# EAGLE library part MAX6301ESA+ (library MAX6301)
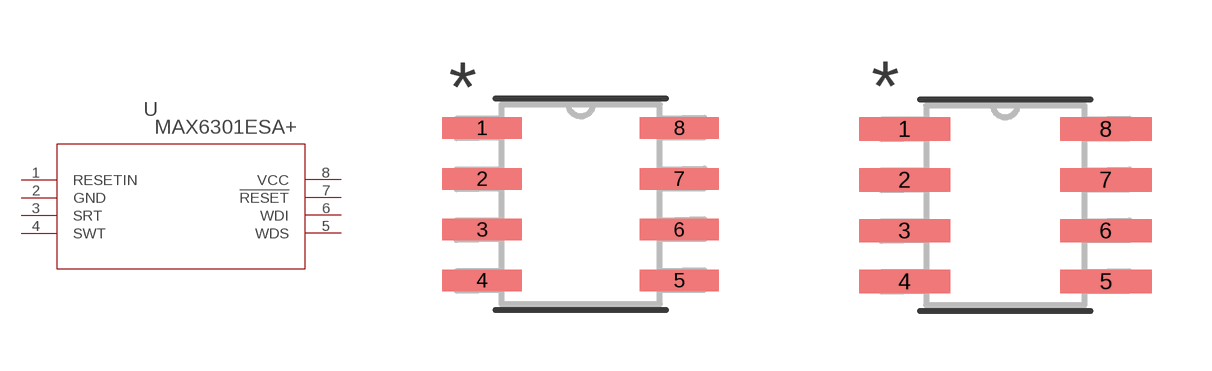
[diagram p0: symbol with the pads of 21-0041B_8; footprints 21-0041B_8, 21-0041B_8-M]

Designator prefix U

## MAX6301ESA+ (MANUFACTURER_PART_NUMBER: MAX6301ESA+; VENDOR: Maxim Integrated Products)  [21-0041B_8]
1  RESETIN  in
2  GND  pwr
3  SRT  in
4  SWT  in
5  WDS  in
6  WDI  in
7  !RESET  out
8  VCC  pwr

## MAX6301ESA+21-0041B_8-M (MANUFACTURER_PART_NUMBER: MAX6301ESA+; VENDOR: Maxim Integrated Products)  [21-0041B_8-M]
Pads as for 21-0041B_8

## MAX6301ESA+21-0041B_8-L (MANUFACTURER_PART_NUMBER: MAX6301ESA+; VENDOR: Maxim Integrated Products)  [21-0041B_8-L]
Pads as for 21-0041B_8

## Footprint 21-0041B_8 (pad centres in mm)
smd 1.981 x 0.533: 1 -2.464,1.905; 2 -2.464,0.635; 3 -2.464,-0.635; 4 -2.464,-1.905; 5 2.464,-1.905; 6 2.464,-0.635; 7 2.464,0.635; 8 2.464,1.905

## Footprint 21-0041B_8-M (pad centres in mm)
smd 2.286 x 0.584: 1 -2.515,1.905; 2 -2.515,0.635; 3 -2.515,-0.635; 4 -2.515,-1.905; 5 2.515,-1.905; 6 2.515,-0.635; 7 2.515,0.635; 8 2.515,1.905

## Footprint 21-0041B_8-L (pad centres in mm)
smd 1.676 x 0.483: 1 -2.413,1.905; 2 -2.413,0.635; 3 -2.413,-0.635; 4 -2.413,-1.905; 5 2.413,-1.905; 6 2.413,-0.635; 7 2.413,0.635; 8 2.413,1.905